# EAGLE library part EP2C20AQ240 (library altera-cyclone-II)
EP2C20AQ240 Auto generated by make-symbol-device-package-bsdl.ulp Rev. 18 Tip: Use split-device-symbol.ulp to generate a Device with multiple small symbols! Read HELP. Source: EP2C20AQ240.BSD
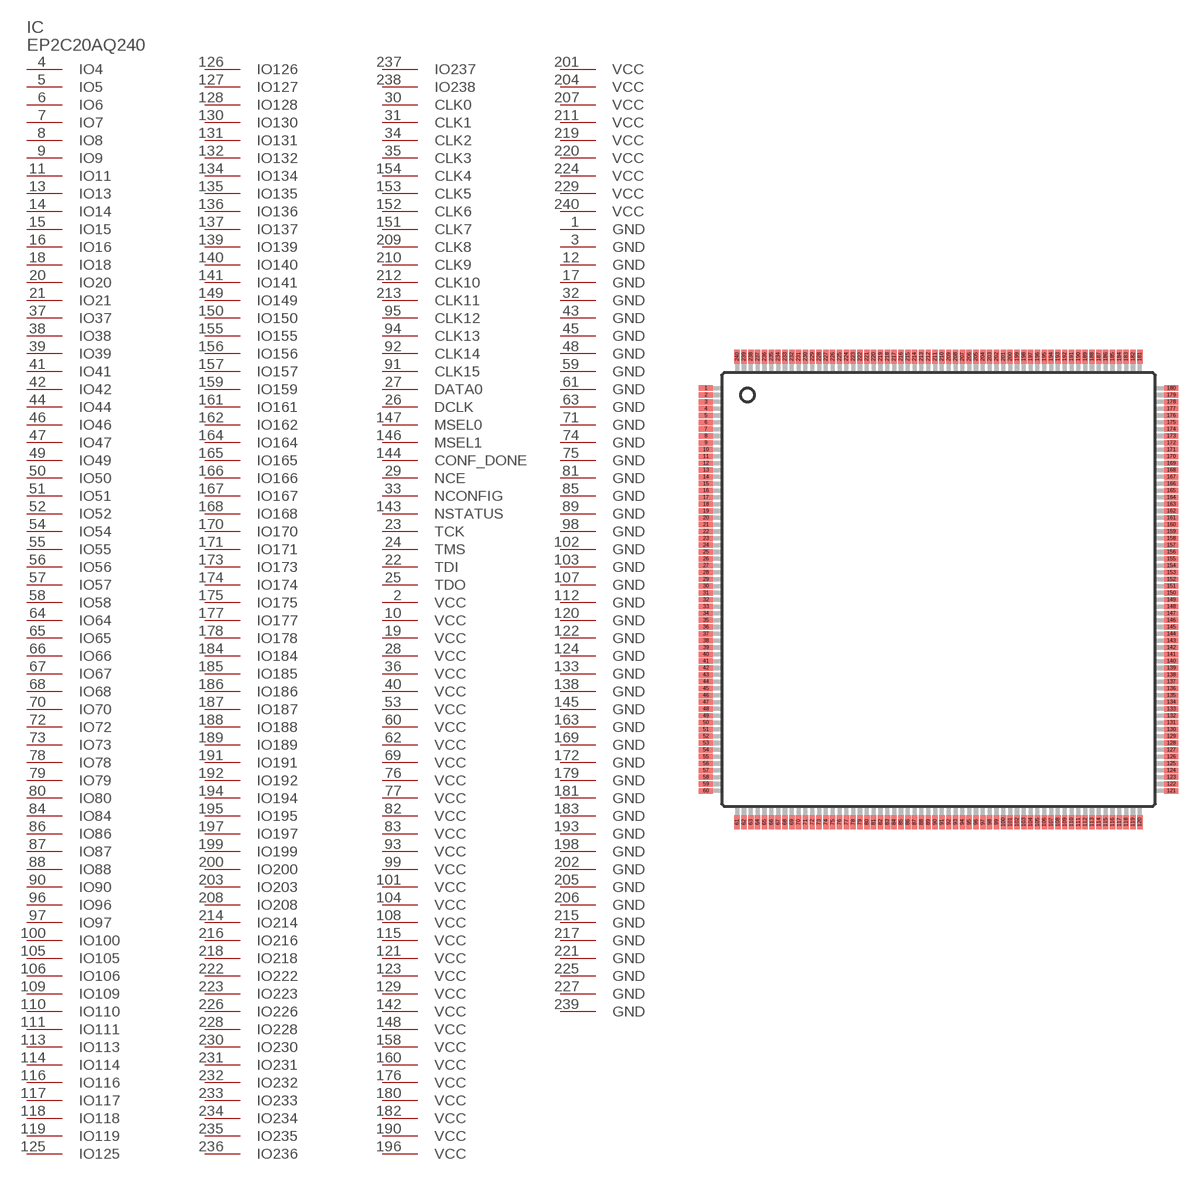
[diagram p5: symbol with the pads of PQFP240; footprint PQFP240]

Designator prefix IC

## EP2C20AQ240 (OC_FARNELL: unknown; OC_NEWARK: unknown)  [PQFP240]
1  GND  pwr
2  VCC  pwr
3  GND  pwr
4  IO4  out
5  IO5  out
6  IO6
7  IO7
8  IO8
9  IO9
10  VCC  pwr
11  IO11
12  GND  pwr
13  IO13
14  IO14
15  IO15
16  IO16
17  GND  pwr
18  IO18
19  VCC  pwr
20  IO20
21  IO21
22  TDI  in
23  TCK  in
24  TMS  in
25  TDO  out
26  DCLK
27  DATA0
28  VCC  pwr
29  NCE  in
30  CLK0
31  CLK1
32  GND  pwr
33  NCONFIG  in
34  CLK2
35  CLK3
36  VCC  pwr
37  IO37
38  IO38
39  IO39
40  VCC  pwr
41  IO41
42  IO42
43  GND  pwr
44  IO44
45  GND  pwr
46  IO46
47  IO47
48  GND  pwr
49  IO49
50  IO50
51  IO51
52  IO52
53  VCC  pwr
54  IO54
55  IO55
56  IO56
57  IO57
58  IO58
59  GND  pwr
60  VCC  pwr
61  GND  pwr
62  VCC  pwr
63  GND  pwr
64  IO64
65  IO65
66  IO66
67  IO67
68  IO68
69  VCC  pwr
70  IO70
71  GND  pwr
72  IO72
73  IO73
74  GND  pwr
75  GND  pwr
76  VCC  pwr
77  VCC  pwr
78  IO78
79  IO79
80  IO80
81  GND  pwr
82  VCC  pwr
83  VCC  pwr
84  IO84
85  GND  pwr
86  IO86
87  IO87
88  IO88
89  GND  pwr
90  IO90
91  CLK15
92  CLK14
93  VCC  pwr
94  CLK13
95  CLK12
96  IO96
97  IO97
98  GND  pwr
99  VCC  pwr
100  IO100
101  VCC  pwr
102  GND  pwr
103  GND  pwr
104  VCC  pwr
105  IO105
106  IO106
107  GND  pwr
108  VCC  pwr
109  IO109
110  IO110
111  IO111
112  GND  pwr
113  IO113
114  IO114
115  VCC  pwr
116  IO116
117  IO117
118  IO118
119  IO119
120  GND  pwr
121  VCC  pwr
122  GND  pwr
123  VCC  pwr
124  GND  pwr
125  IO125
126  IO126
127  IO127
128  IO128
129  VCC  pwr
130  IO130
131  IO131
132  IO132
133  GND  pwr
134  IO134
135  IO135
136  IO136
137  IO137
138  GND  pwr
139  IO139
140  IO140
141  IO141
142  VCC  pwr
143  NSTATUS  in
144  CONF_DONE  in
145  GND  pwr
146  MSEL1  in
147  MSEL0  in
148  VCC  pwr
149  IO149
150  IO150
151  CLK7
152  CLK6
153  CLK5
154  CLK4
155  IO155
156  IO156
157  IO157
158  VCC  pwr
159  IO159
160  VCC  pwr
161  IO161
162  IO162
163  GND  pwr
164  IO164
165  IO165
166  IO166
167  IO167
168  IO168
169  GND  pwr
170  IO170
171  IO171
172  GND  pwr
173  IO173
174  IO174
175  IO175
176  VCC  pwr
177  IO177
178  IO178
179  GND  pwr
180  VCC  pwr
181  GND  pwr
182  VCC  pwr
183  GND  pwr
184  IO184
185  IO185
186  IO186
187  IO187
188  IO188
189  IO189
190  VCC  pwr
191  IO191
192  IO192
193  GND  pwr
194  IO194
195  IO195
196  VCC  pwr
197  IO197
198  GND  pwr
199  IO199
200  IO200
201  VCC  pwr
202  GND  pwr
203  IO203
204  VCC  pwr
205  GND  pwr
206  GND  pwr
207  VCC  pwr
208  IO208
209  CLK8
210  CLK9
211  VCC  pwr
212  CLK10
213  CLK11
214  IO214
215  GND  pwr
216  IO216
217  GND  pwr
218  IO218
219  VCC  pwr
220  VCC  pwr
221  GND  pwr
222  IO222
223  IO223
224  VCC  pwr
225  GND  pwr
226  IO226
227  GND  pwr
228  IO228
229  VCC  pwr
230  IO230
231  IO231
232  IO232
233  IO233
234  IO234
235  IO235
236  IO236
237  IO237
238  IO238
239  GND  pwr
240  VCC  pwr

## Footprint PQFP240 (pad centres in mm)
PQFP240 Auto generated by make-symbol-device-package-bsdl.ulp Rev. 18 Source: www.altera.com .. cyc2_cii51015.pdf
smd 1 x 0.4: 1 -17.05,14.75; 2 -17.05,14.25; 3 -17.05,13.75; 4 -17.05,13.25; 5 -17.05,12.75; 6 -17.05,12.25; 7 -17.05,11.75; 8 -17.05,11.25; 9 -17.05,10.75; 10 -17.05,10.25; 11 -17.05,9.75; 12 -17.05,9.25; 13 -17.05,8.75; 14 -17.05,8.25; 15 -17.05,7.75; 16 -17.05,7.25; 17 -17.05,6.75; 18 -17.05,6.25; 19 -17.05,5.75; 20 -17.05,5.25; 21 -17.05,4.75; 22 -17.05,4.25; 23 -17.05,3.75; 24 -17.05,3.25; 25 -17.05,2.75; 26 -17.05,2.25; 27 -17.05,1.75; 28 -17.05,1.25; 29 -17.05,0.75; 30 -17.05,0.25; 31 -17.05,-0.25; 32 -17.05,-0.75; 33 -17.05,-1.25; 34 -17.05,-1.75; 35 -17.05,-2.25; 36 -17.05,-2.75; 37 -17.05,-3.25; 38 -17.05,-3.75; 39 -17.05,-4.25; 40 -17.05,-4.75; 41 -17.05,-5.25; 42 -17.05,-5.75; 43 -17.05,-6.25; 44 -17.05,-6.75; 45 -17.05,-7.25; 46 -17.05,-7.75; 47 -17.05,-8.25; 48 -17.05,-8.75; 49 -17.05,-9.25; 50 -17.05,-9.75; 51 -17.05,-10.25; 52 -17.05,-10.75; 53 -17.05,-11.25; 54 -17.05,-11.75; 55 -17.05,-12.25; 56 -17.05,-12.75; 57 -17.05,-13.25; 58 -17.05,-13.75; 59 -17.05,-14.25; 60 -17.05,-14.75; 121 17.05,-14.75; 122 17.05,-14.25; 123 17.05,-13.75; 124 17.05,-13.25; 125 17.05,-12.75; 126 17.05,-12.25; 127 17.05,-11.75; 128 17.05,-11.25; 129 17.05,-10.75; 130 17.05,-10.25; 131 17.05,-9.75; 132 17.05,-9.25; 133 17.05,-8.75; 134 17.05,-8.25; 135 17.05,-7.75; 136 17.05,-7.25; 137 17.05,-6.75; 138 17.05,-6.25; 139 17.05,-5.75; 140 17.05,-5.25; 141 17.05,-4.75; 142 17.05,-4.25; 143 17.05,-3.75; 144 17.05,-3.25; 145 17.05,-2.75; 146 17.05,-2.25; 147 17.05,-1.75; 148 17.05,-1.25; 149 17.05,-0.75; 150 17.05,-0.25; 151 17.05,0.25; 152 17.05,0.75; 153 17.05,1.25; 154 17.05,1.75; 155 17.05,2.25; 156 17.05,2.75; 157 17.05,3.25; 158 17.05,3.75; 159 17.05,4.25; 160 17.05,4.75; 161 17.05,5.25; 162 17.05,5.75; 163 17.05,6.25; 164 17.05,6.75; 165 17.05,7.25; 166 17.05,7.75; 167 17.05,8.25; 168 17.05,8.75; 169 17.05,9.25; 170 17.05,9.75; 171 17.05,10.25; 172 17.05,10.75; 173 17.05,11.25; 174 17.05,11.75; 175 17.05,12.25; 176 17.05,12.75; 177 17.05,13.25; 178 17.05,13.75; 179 17.05,14.25; 180 17.05,14.75
smd 0.4 x 1: 61 -14.75,-17.05; 62 -14.25,-17.05; 63 -13.75,-17.05; 64 -13.25,-17.05; 65 -12.75,-17.05; 66 -12.25,-17.05; 67 -11.75,-17.05; 68 -11.25,-17.05; 69 -10.75,-17.05; 70 -10.25,-17.05; 71 -9.75,-17.05; 72 -9.25,-17.05; 73 -8.75,-17.05; 74 -8.25,-17.05; 75 -7.75,-17.05; 76 -7.25,-17.05; 77 -6.75,-17.05; 78 -6.25,-17.05; 79 -5.75,-17.05; 80 -5.25,-17.05; 81 -4.75,-17.05; 82 -4.25,-17.05; 83 -3.75,-17.05; 84 -3.25,-17.05; 85 -2.75,-17.05; 86 -2.25,-17.05; 87 -1.75,-17.05; 88 -1.25,-17.05; 89 -0.75,-17.05; 90 -0.25,-17.05; 91 0.25,-17.05; 92 0.75,-17.05; 93 1.25,-17.05; 94 1.75,-17.05; 95 2.25,-17.05; 96 2.75,-17.05; 97 3.25,-17.05; 98 3.75,-17.05; 99 4.25,-17.05; 100 4.75,-17.05; 101 5.25,-17.05; 102 5.75,-17.05; 103 6.25,-17.05; 104 6.75,-17.05; 105 7.25,-17.05; 106 7.75,-17.05; 107 8.25,-17.05; 108 8.75,-17.05; 109 9.25,-17.05; 110 9.75,-17.05; 111 10.25,-17.05; 112 10.75,-17.05; 113 11.25,-17.05; 114 11.75,-17.05; 115 12.25,-17.05; 116 12.75,-17.05; 117 13.25,-17.05; 118 13.75,-17.05; 119 14.25,-17.05; 120 14.75,-17.05; 181 14.75,17.05; 182 14.25,17.05; 183 13.75,17.05; 184 13.25,17.05; 185 12.75,17.05; 186 12.25,17.05; 187 11.75,17.05; 188 11.25,17.05; 189 10.75,17.05; 190 10.25,17.05; 191 9.75,17.05; 192 9.25,17.05; 193 8.75,17.05; 194 8.25,17.05; 195 7.75,17.05; 196 7.25,17.05; 197 6.75,17.05; 198 6.25,17.05; 199 5.75,17.05; 200 5.25,17.05; 201 4.75,17.05; 202 4.25,17.05; 203 3.75,17.05; 204 3.25,17.05; 205 2.75,17.05; 206 2.25,17.05; 207 1.75,17.05; 208 1.25,17.05; 209 0.75,17.05; 210 0.25,17.05; 211 -0.25,17.05; 212 -0.75,17.05; 213 -1.25,17.05; 214 -1.75,17.05; 215 -2.25,17.05; 216 -2.75,17.05; 217 -3.25,17.05; 218 -3.75,17.05; 219 -4.25,17.05; 220 -4.75,17.05; 221 -5.25,17.05; 222 -5.75,17.05; 223 -6.25,17.05; 224 -6.75,17.05; 225 -7.25,17.05; 226 -7.75,17.05; 227 -8.25,17.05; 228 -8.75,17.05; 229 -9.25,17.05; 230 -9.75,17.05; 231 -10.25,17.05; 232 -10.75,17.05; 233 -11.25,17.05; 234 -11.75,17.05; 235 -12.25,17.05; 236 -12.75,17.05; 237 -13.25,17.05; 238 -13.75,17.05; 239 -14.25,17.05; 240 -14.75,17.05